# Altium integrated library Power MOSFETs.IntLib: 1 symbol
Pins are listed as number, name and electrical type; pins without a type are passive.

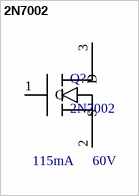
[diagram p0: symbol 2N7002]

## 2N7002
designator Q?  VDSS: 60V  ID: 115mA
MOSFET N TRENCH 60V 115MA 2.5V @ 250UA 7.5 ? @ 500MA,10V SOT-23(SOT-23-3) ROHS; Manufacturer: Changjiang Electronics Tech (CJ); MFR.Part #: 2N7002; LCSC Part #: C8545; Package: SOT-23-3; ComponentLink1Description: Datasheet; ComponentLink1URL: https://datasheet.lcsc.com/szlcsc/Changjiang-Electronics-Tech-CJ-2N7002_C8545.pdf
footprint PCBComponent_1
pins: 1 G, 2 S, 3 D